# Altium schematic symbol library HDR_1X13_BB_14.SchLib: 1 symbol
Pins are listed as number, name and electrical type; pins without a type are passive.

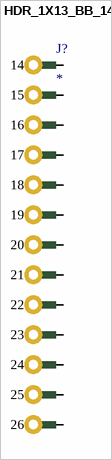
[diagram p0: symbol HDR_1X13_BB_14]

## HDR_1X13_BB_14
designator J?
pins: 14, 15, 16, 17, 18, 19, 20, 21, 22, 23, 24, 25, 26